# Altium schematic symbol library TS-1088-AR02016.SchLib: 1 symbol
Pins are listed as number, name and electrical type; pins without a type are passive.

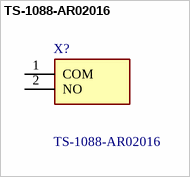
[diagram p0: symbol TS-1088-AR02016]

## TS-1088-AR02016
designator X?
Tact Switch; Manufacturer_Name: XUNPU; Geometry.Height: 2mm; Manufacturer_Part_Number: TS-1088-AR02016; Mouser Part Number: *; Mouser Price/Stock: *; Arrow Part Number: *; Arrow Price/Stock: *; Datasheet Link: https://www.xunpudianzi.com/uploads/pdf/TS-1088-ARXXX.pdf
footprint TS1088AR02016
pins: 1 COM, 2 NO